# Altium schematic symbol library ADXL355.SchLib: 4 symbols
Pins are listed as number, name and electrical type; pins without a type are passive.

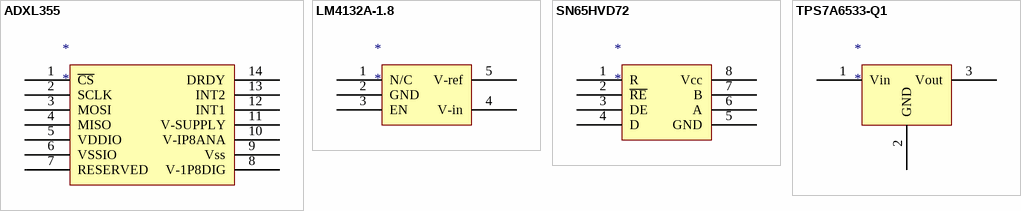
[diagram p0: symbols ADXL355 to TPS7A6533-Q1]

## ADXL355
designator *
pins: 1 ~{CS}, 2 SCLK, 3 MOSI, 4 MISO, 5 VDDIO, 6 VSSIO, 7 RESERVED, 8 V-1P8DIG, 9 Vss, 10 V-IP8ANA, 11 V-SUPPLY, 12 INT1, 13 INT2, 14 DRDY

## LM4132A-1.8
designator *
pins: 1 N/C, 2 GND, 3 EN, 4 V-in, 5 V-ref

## SN65HVD72
designator *
pins: 1 R, 2 ~{RE}, 3 DE, 4 D, 5 GND, 6 A, 7 B, 8 Vcc

## TPS7A6533-Q1
designator *
pins: 1 Vin, 2 GND, 3 Vout